# Altium footprint library NTC.PcbLib: 18 footprints (part 1 of 2)
Each footprint in its own frame and in the unit in brackets; x right, y up, seen from the top. Pads: shape width x height; smd on the part's side, far side on the other; paste and mask are expansions set on the pad; w line width, h text height; cw(c..) or ccw(c..) is an arc to the next point about the centre after c.
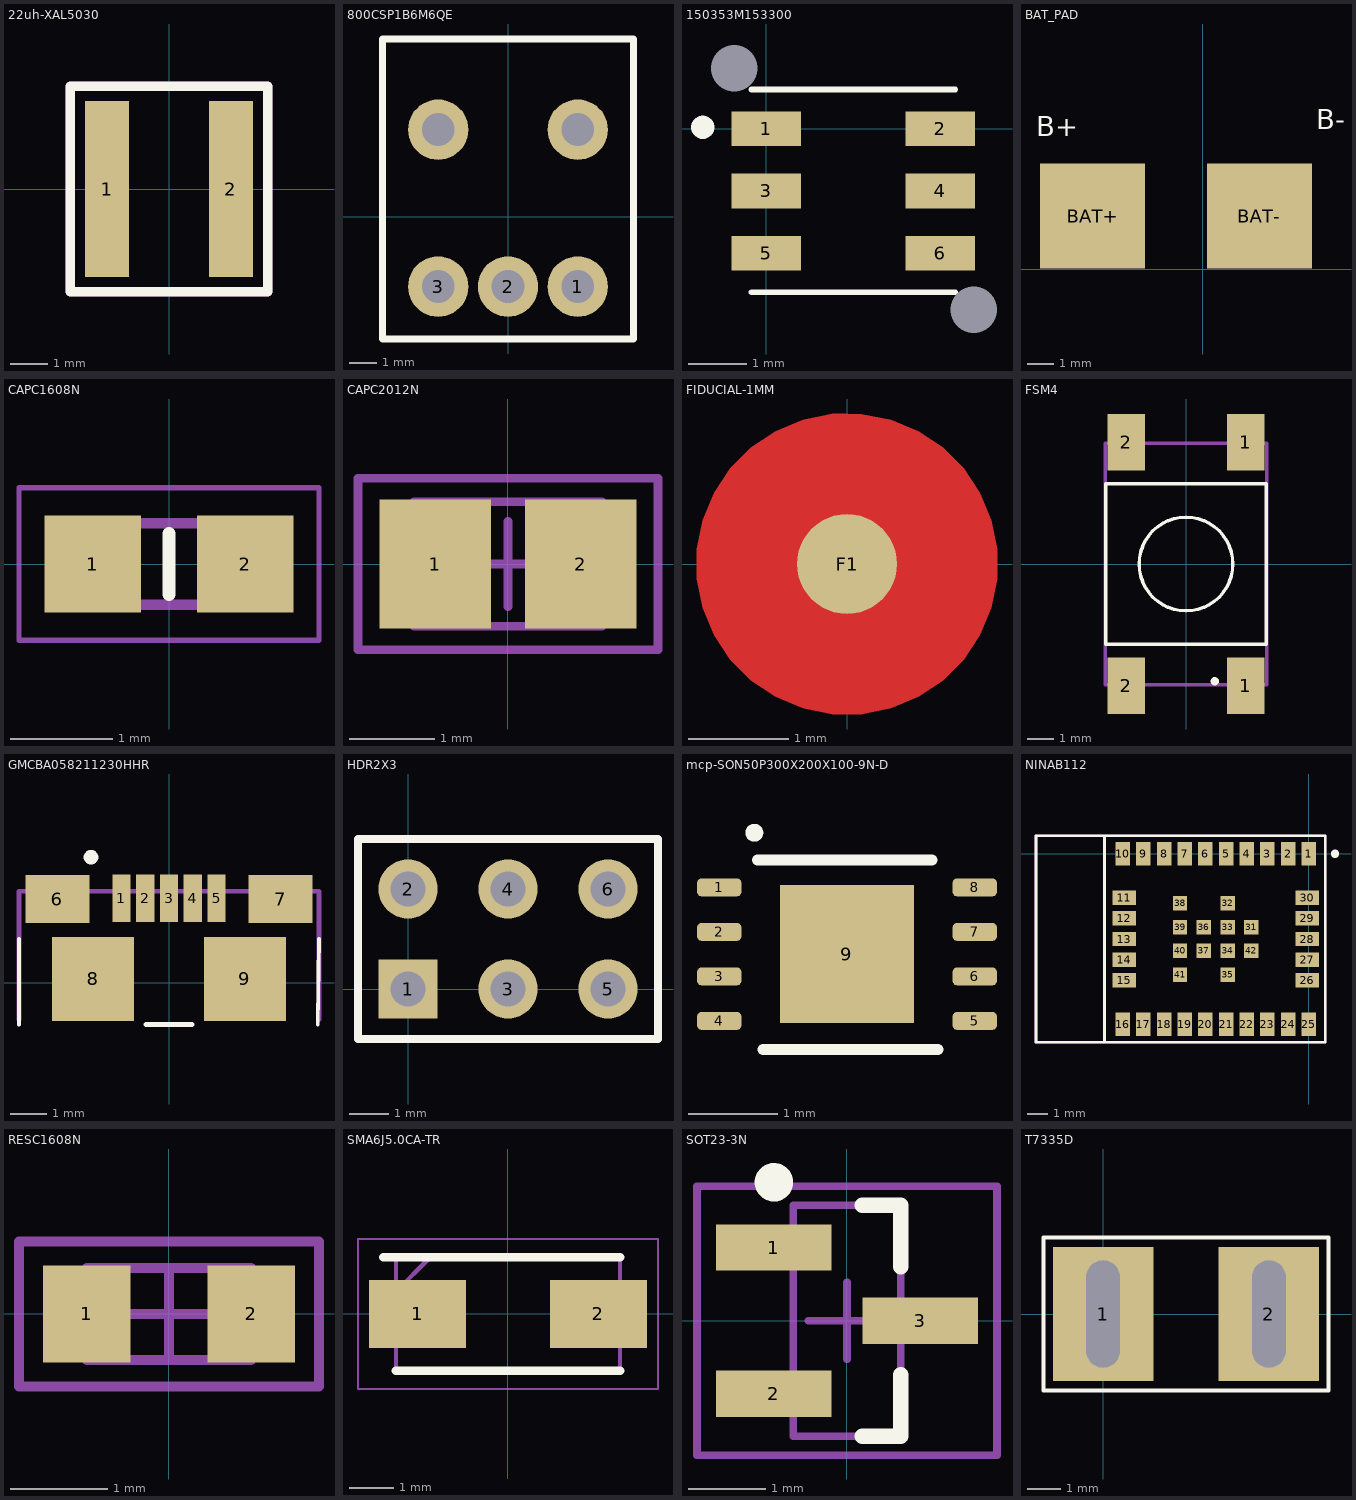
[diagram p0: the footprints below, top view; thin cyan lines are the x and y axes]

## 22uh-XAL5030 [mm]
pads (2):
  rect 1.18x4.7 smd: 1(-1.655,0) 2(1.655,0)
Top Overlay:
  lines w0.254: -2.64,-2.74 2.64,-2.74 2.64,2.74 -2.64,2.74 -2.64,-2.74
Mechanical 15:
  lines w0.254: -2.64,-2.74 -2.64,2.74 2.64,2.74 2.64,-2.74 -2.64,-2.74
3D body "Coilcraft-XAL5030.STEP": height 3, standoff -0.1, extent -2.77,-2.8 2.71,2.88

## 800CSP1B6M6QE [mm]
pads (5):
  round 2.2 hole 1.2: 1(2.54,-2.54) 2(0,-2.54) 3(-2.54,-2.54) ""(-2.54,3.175) ""(2.54,3.175)
Top Overlay:
  lines w0.254: -4.572,-4.445 4.572,-4.445 4.572,6.477 -4.572,6.477 -4.572,-4.445
3D body "800CSP1B6M6xE.stp": height 6.35, standoff -3.3, extent -4.05,-3.041 4.05,16.689

## 150353M153300 [mm]
pads (8):
  rect 1.2x0.6 smd: 1(0,0) 2(3,0) 3(0,-1.075) 4(3,-1.075) 5(0,-2.15) 6(3,-2.15)
  round 0 hole 0.8: 8(-0.559,1.041) 8(3.581,-3.124)
Top Overlay:
  lines w0.1: -0.26,-2.825 3.26,-2.825 ; -0.26,0.675 3.26,0.675
  lines w0.2: -1.1,-0.075 cw(c-1.1,0.025) -1.1,0.125 cw(c-1.1,0.025) -1.1,-0.075
3D body "150352M173300_Download_Step_150352M173300_rev1.stp": height 1.65, standoff -0.14, extent -0.212,-2.424 3.288,0.376
3D body "VLP-350-R.STEP": height 8.89, standoff -1.52, extent -0.851,-3.378 3.848,1.321

## BAT_PAD [mm]
pads (2):
  rect 4x4 smd mask+0.05: BAT+(-4.191,2.032) BAT-(2.159,2.032)
Top Overlay:
  text "B-" at 4.318,5.334 h0.76
  text "B+" at -6.35,5.08 h0.76

## CAPC1608N [mm]
pads (2):
  rrect0% 0.95x0.95 smd: 1(-0.75,0) 2(0.75,0)
Top Overlay:
  lines w0.127: 0,-0.3 0,0.3
Mechanical 15:
  lines w0.05: -1.475,-0.75 -1.475,0.75 1.475,0.75 1.475,-0.75 -1.475,-0.75
  lines w0.1: -0.8,-0.4 0.8,-0.4 0.8,0.4 -0.8,0.4 -0.8,-0.4
3D body "CAPC0603.STEP": height 0.81, standoff 0.01, extent -1.05,-0.525 1.05,0.504

## CAPC2012N [mm] "Chip Capacitor, Body 2.0x1.3mm, IPC Medium Density"
height 1.1
pads (2):
  rect 1.3x1.5 smd: 1(-0.85,0) 2(0.85,0)
Mechanical 13:
  lines w0.1: -1.1,-0.725 1.1,-0.725 1.1,0.725 -1.1,0.725 -1.1,-0.725
Mechanical 15:
  lines w0.1: -0.5,0 0.5,0 ; 0,-0.5 0,0.5 ; -1.75,-1 1.75,-1 1.75,1 -1.75,1 -1.75,-1
3D body "CAPC0805.STEP": height 0.9, standoff 0, extent -1.301,-0.678 1.301,0.678

## FIDUCIAL-1MM [mm] "1MM FIDUCAL MARKER"
pads (1):
  round 1 smd paste-1 mask+0.5: F1(0,0)
Top Layer:
  pour cut-out: -1.5,0 -1.5,-0.148 -1.442,-0.438 -1.329,-0.711 -1.165,-0.956 -0.956,-1.165 -0.711,-1.329 -0.438,-1.442 -0.148,-1.5 0,-1.5 0.148,-1.5 0.438,-1.442 0.711,-1.329 0.956,-1.165 1.165,-0.956 1.329,-0.711 1.442,-0.438 1.5,-0.148 1.5,0 1.5,0.148 1.442,0.438 1.329,0.711 1.165,0.956 0.956,1.165 0.711,1.329 0.438,1.442 0.148,1.5 0,1.5 -0.148,1.5 -0.438,1.442 -0.711,1.329 -0.956,1.165 -1.165,0.956 -1.329,0.711 -1.442,0.438 -1.5,0.148

## FSM4 [mm]
pads (4):
  rect 1.4x2.1 smd mask+0.07: 1(2.23,-4.55) 1(2.23,4.55) 2(-2.23,-4.55) 2(-2.23,4.55)
Top Overlay:
  circle w0.152: c1.075,-4.375 r0.076
  circle w0.127: c0,0 r1.75
  lines w0.127: -3,-3 -3,3 3,3 3,-3 -3,-3
Mechanical 15:
  lines w0.127: -3.016,-4.508 -3.016,4.509 3.016,4.509 3.016,-4.508 -3.016,-4.508
3D body "Tactal Switch - SMD (6mmx 6mmx 5mm) - Marked.stp": height 5, standoff 0, extent -3.016,-4.508 3.016,4.509

## GMCBA058211230HHR [mm]
pads (9):
  rect 0.5x1.3 smd: 1(-1.3,2.304) 2(-0.65,2.304) 3(0,2.304) 4(0.65,2.304) 5(1.3,2.304)
  rect 1.75x1.3 smd: 6(-3.048,2.286) 7(3.048,2.286)
  rect 2.25x2.3 smd: 8(-2.075,0.1) 9(2.075,0.1)
Top Overlay:
  lines w0.1: -4.1,-1.143 -4.1,1.2 ; 4.064,-1.143 4.1,1.2
  lines w0.125: -0.635,-1.143 0.635,-1.143
  lines w0.2: -2.232,3.429 ccw(c-2.132,3.429) -2.032,3.429 ccw(c-2.132,3.429) -2.232,3.429
Mechanical 15:
  lines w0.125: -4.1,-1.016 -4.1,2.5 4.1,2.5 4.1,-1.016
3D body "gmcba058xx1230hhr.STEP": height 3.77, standoff -0.03, extent -4.1,-2.433 4.1,2.667

## HDR2X3 [mm] "Connector; Header; 3x2 Position"
pads (6):
  rect 1.5x1.5 hole 0.9: 1(0,0)
  round 1.5 hole 0.9: 2(0,2.54) 3(2.54,0) 4(2.54,2.54) 5(5.08,0) 6(5.08,2.54)
Top Overlay:
  lines w0.2: -1.27,-1.27 -1.27,3.81 6.35,3.81 6.35,-1.27 -1.27,-1.27
  text "." at -1.905,-0.025 h0.76
3D body "Download_STP_61300621121 (rev1).stp": height 8.67, standoff -2.87, extent -1.27,-1.27 6.35,3.81

## mcp-SON50P300X200X100-9N-D [mm]
pads (9):
  rrect50% 0.5x0.2 smd: 1(-4.116,3.221) 2(-4.116,2.721) 3(-4.116,2.221) 4(-4.116,1.721) 5(-1.246,1.721) 6(-1.246,2.221) 7(-1.246,2.721) 8(-1.246,3.221)
  rect 1.5x1.55 smd: 9(-2.681,2.471)
Top Overlay:
  circle w0.1: c-3.722,3.835 r0.05
  lines w0.125: -3.689,3.531 -1.727,3.531 ; -3.624,1.399 -1.662,1.399
Top Paste:
  region: -2.606,2.961 -2.016,2.961 -2.016,1.981 -2.606,1.981
  region: -3.346,2.961 -2.756,2.961 -2.756,1.981 -3.346,1.981
3D body "MCP73831-2ACI_MC.stp": height 1, standoff 0, extent -4.231,1.471 -1.131,3.471

## NINAB112 [mm]
pads (42):
  rect 0.7x1.15 smd: 1(0,0) 2(-1,0) 3(-2,0) 4(-3,0) 5(-4,0) 6(-5,0) 7(-6,0) 8(-7,0) 9(-8,0) 10(-9,0) 16(-9,-8.25) 17(-8,-8.25) 18(-7,-8.25) 19(-6,-8.25) 20(-5,-8.25) 21(-4,-8.25) 22(-3,-8.25) 23(-2,-8.25) 24(-1,-8.25) 25(0,-8.25)
  rect 1.15x0.7 smd: 11(-8.925,-2.125) 12(-8.925,-3.125) 13(-8.925,-4.125) 14(-8.925,-5.125) 15(-8.925,-6.125) 26(-0.075,-6.125) 27(-0.075,-5.125) 28(-0.075,-4.125) 29(-0.075,-3.125) 30(-0.075,-2.125)
  rect 0.7x0.7 smd: 31(-2.78,-3.55) 32(-3.93,-2.4) 33(-3.93,-3.55) 34(-3.93,-4.7) 35(-3.93,-5.85) 36(-5.08,-3.55) 37(-5.08,-4.7) 38(-6.23,-2.4) 39(-6.23,-3.55) 40(-6.23,-4.7) 41(-6.23,-5.85) 42(-2.78,-4.7)
Top Overlay:
  circle w0.3: c1.27,0 r0.05
  lines w0.127: -9.883,-9.125 -9.883,0.875 ; -13.2,-9.125 0.8,-9.125 0.8,0.875 -13.2,0.875 -13.2,-9.125
Mechanical 4:
  lines w0.127: -13.198,-9.125 -13.198,0.875 -9.398,0.875 0.802,0.875 0.802,-9.125 -9.398,-9.125 -13.198,-9.125
3D body "NINA-B112.stp": height 3.76, standoff -0.02, extent -13.2,-9.125 0.8,0.875

## RESC1608N [mm] "Chip Resistor, Body 1.6x0.8mm, IPC Medium Density"
height 0.6
pads (2):
  rect 0.9x1 smd: 1(-0.85,0) 2(0.85,0)
Mechanical 13:
  lines w0.1: -0.85,-0.475 -0.85,0.475 0.85,0.475 0.85,-0.475 -0.85,-0.475
Mechanical 15:
  lines w0.1: -0.475,0 0.475,0 ; 0,-0.475 0,0.475 ; -1.55,-0.75 -1.55,0.75 1.55,0.75 1.55,-0.75 -1.55,-0.75
3D body "0603S1.STEP": height 0.43, standoff -0.02, extent -0.988,-0.45 0.988,0.529

## SMA6J5.0CA-TR [mm]
pads (2):
  rect 2.2x1.55 smd: 1(-2.05,0) 2(2.05,0)
Top Overlay:
  lines w0.2: -2.825,1.288 2.538,1.288 ; -2.538,-1.288 2.538,-1.288
Mechanical 15:
  lines w0.1: -2.538,0.512 -1.762,1.288 ; -2.538,-1.288 2.538,-1.288 2.538,1.288 -2.538,1.288 -2.538,-1.288
Mechanical 20:
  lines w0.05: -3.4,-1.7 3.4,-1.7 3.4,1.7 -3.4,1.7 -3.4,-1.7
3D body "SMA6J5.0CA-TR.stp": height 2.23, standoff 0, extent -2.41,-1.237 2.665,1.338

## SOT23-3N [mm] "SOT23, 3-Leads, Body 2.9x1.3mm, Pitch 0.95mm, Lead Span 2.5mm, IPC Medium Density"
height 1.1
pads (3):
  rect 1.5x0.6 smd: 1(-0.95,0.95) 2(-0.95,-0.95) 3(0.95,0)
Top Overlay:
  circle w0.25: c-0.95,1.8 r0.125
  lines w0.2: 0.2,-1.5 0.7,-1.5 0.7,-0.7 ; 0.2,1.5 0.7,1.5 0.7,0.7
Mechanical 13:
  lines w0.1: -0.7,-1.5 0.7,-1.5 0.7,1.5 -0.7,1.5 -0.7,-1.5
Mechanical 15:
  lines w0.1: -0.5,0 0.5,0 ; 0,-0.5 0,0.5 ; -1.95,-1.75 1.95,-1.75 1.95,1.75 -1.95,1.75 -1.95,-1.75
3D body: height 1.1, standoff 0, extent -0.7,-1.5 0.7,1.5

## T7335D [mm]
pads (2):
  rect 3x4 hole 1 slot 3.2 at 90 deg: 1(0,0) 2(4.953,0)
Top Overlay:
  lines w0.125: -1.778,-2.286 -1.778,2.286 6.731,2.286 6.731,-2.286 -1.778,-2.286
3D body "T7335D_Assembly.STEP": height 5.35, standoff -27.69, extent -3.25,-8.025 8.75,9.175